# EAGLE library part 691312510015 (library Wuerth_Elektronik_eiCan_Terminal_Blocks_v2.0)
WR-TBL Serie 312 - 5.08 mm Open Horizontal PCB Header , 15 Pins
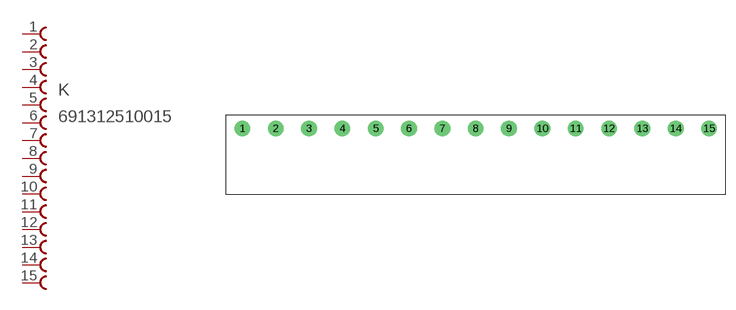
[diagram p140: symbol with the pads of 691312510015; footprint 691312510015]

Designator prefix K

## 691312510015  [691312510015]
1  1  pas
2  2  pas
3  3  pas
4  4  pas
5  5  pas
6  6  pas
7  7  pas
8  8  pas
9  9  pas
10  10  pas
11  11  pas
12  12  pas
13  13  pas
14  14  pas
15  15  pas

## Footprint 691312510015 (pad centres in mm)
WR-TBL Serie 312 - 5.08 mm Open Horizontal PCB Header , 15 Pins
drill 1.6 round: 1 -30.48,0; 2 -25.4,0; 3 -20.32,0; 4 -15.24,0; 5 -10.16,0; 6 -5.08,0; 7 0,0; 8 5.08,0; 9 10.16,0; 10 15.24,0; 11 20.32,0; 12 25.4,0; 13 30.48,0; 14 35.56,0; 15 40.64,0